# EAGLE library part 00SPEEDY_EE13/7/4_THT_H_9PIN (library Wurth Electronics Midcom Inc V1-0)
Package Style: Speedy EE13/7/4 Mounting: THT Pins: 10 pins Bobbin: 070-5662 Best pinouts for production vary per application. Please contact Wurth Electronics Midcom, Inc. for assistance with your custom design. Website: Wurth Electronics Midcom <http://www.we-online.com/midcom> Contact us Wurth Electronics Midcom, Inc. 121 Airport Dr. Watertown, SD 57201 Phone: (605) 886-4385 Fax: (605) 886-4486 E-Mail: midcom@we-online.com
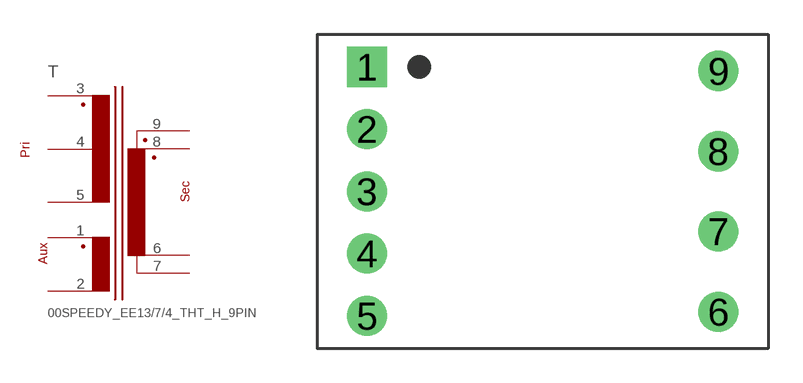
[diagram p101: symbol with the pads of 00SPEEDY_EE13/7/4_THT_H_9PIN; footprint 00SPEEDY_EE13/7/4_THT_H_9PIN]

Designator prefix T

## 00SPEEDY_EE13/7/4_THT_H_9PIN  [00SPEEDY_EE13/7/4_THT_H_9PIN]
1  4  pas
2  5  pas
3  1  pas
4  2  pas
5  3  pas
6  9  pas
7  6  pas
8  8  pas
9  7  pas

## Footprint 00SPEEDY_EE13/7/4_THT_H_9PIN (pad centres in mm)
Package Style: Speedy EE13/7/4 Mounting: THT Pins: 10 pins Bobbin: 070-5662
drill 1.168 square: 1 -7.671,5.436
drill 1.168 round: 2 -7.671,2.718; 3 -7.671,0; 4 -7.671,-2.718; 5 -7.671,-5.436; 6 7.671,-5.258; 7 7.671,-1.753; 8 7.671,1.753; 9 7.671,5.258